# Altium schematic symbol library hedgehog.SchLib: 3 symbols
Pins are listed as number, name and electrical type; pins without a type are passive.

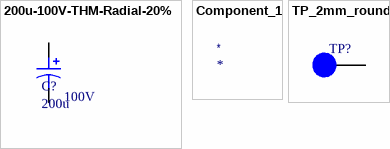
[diagram p0: symbols 200u-100V-THM-Radial-20% to TP_2mm_round]

## 200u-100V-THM-Radial-20%
designator C?, comment 200u  VoltageRating: 100V
Polarized Capacitor, 200uF, 100V Voltage Rating, Through Hole Radial Package; ManufacturerReference: EGXF101ELL201MK25S; ManufacturerName: United Chemi-Con; Other: 20%, 3000hr, 125C; Material: Alum; PackageReference: Through Hole Radial-5mmLeadSpacing; DistributorReference: 565-4541-ND; DistributorName: Digikey; Value: 200uF; InventoryNumber: *; Category: Capacitor Polarized
footprint CAP-200uF-1000V-20%-THM-Radial (THM-Radial- Pitch5mm)
pins: 1, 2

## Component_1
designator *

## TP_2mm_round
designator TP?  (value not drawn)
footprint TP_2mm_round
pins: 0